# Altium integrated library NX_Crystal.IntLib: 2 symbols
Pins are listed as number, name and electrical type; pins without a type are passive.

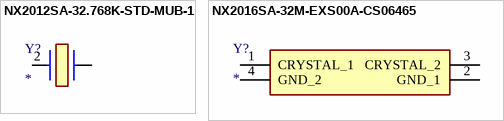
[diagram p0: symbols NX2012SA-32.768K-STD-MUB-1 to NX2016SA-32M-EXS00A-CS06465]

## NX2012SA-32.768K-STD-MUB-1
designator Y?
Crystal or Oscillator; Manufacturer_Name: NDK; Manufacturer_Part_Number: NX2012SA-32.768K-STD-MUB-1; Description: NDK 32.76kHz Crystal Unit +/-20ppm SMD 2-Pin 2.05 x 1.2 x 0.55mm; Datasheet Link: https://www.mouser.de/datasheet/2/905/c_NX2012SA-STD-MUB-1_e-1317508.pdf; Height: 0.6mm; Mouser Part Number: 344-NX2012SA32768K1; Mouser Price/Stock: https://www.mouser.co.uk/ProductDetail/NDK/NX2012SA-32.768K-STD-MUB-1?qs=55YtniHzbhA%252B6%2Fl1MwFZaQ%3D%3D
footprint NX2012SA32768KSTDMUB1
pins: 2 CRYSTAL_2, ?1

## NX2016SA-32M-EXS00A-CS06465
designator Y?
Crystal or Oscillator; Manufacturer_Name: NDK; Manufacturer_Part_Number: NX2016SA-32M-EXS00A-CS06465; Description: CRYSTAL 32MHZ 10PF SMD; Datasheet Link: http://www.ndk.com/images/products/catalog/c_NX2016SA_e.pdf; Height: 0.5mm; Mouser Part Number: 344-NX2016SA32S06465; Mouser Price/Stock: https://www.mouser.co.uk/ProductDetail/NDK/NX2016SA-32M-EXS00A-CS06465?qs=w%2Fv1CP2dgqr82b0JjRnv4A%3D%3D
footprint NX2016SA32MEXS00ACS06465
pins: 1 CRYSTAL_1, 2 GND_1, 3 CRYSTAL_2, 4 GND_2